# Altium footprint library alientek_sch_lib.PcbLib: 370 footprints (part 1 of 24)
Each footprint in its own frame and in the unit in brackets; x right, y up, seen from the top. Pads: shape width x height; smd on the part's side, far side on the other; paste and mask are expansions set on the pad; w line width, h text height; cw(c..) or ccw(c..) is an arc to the next point about the centre after c.
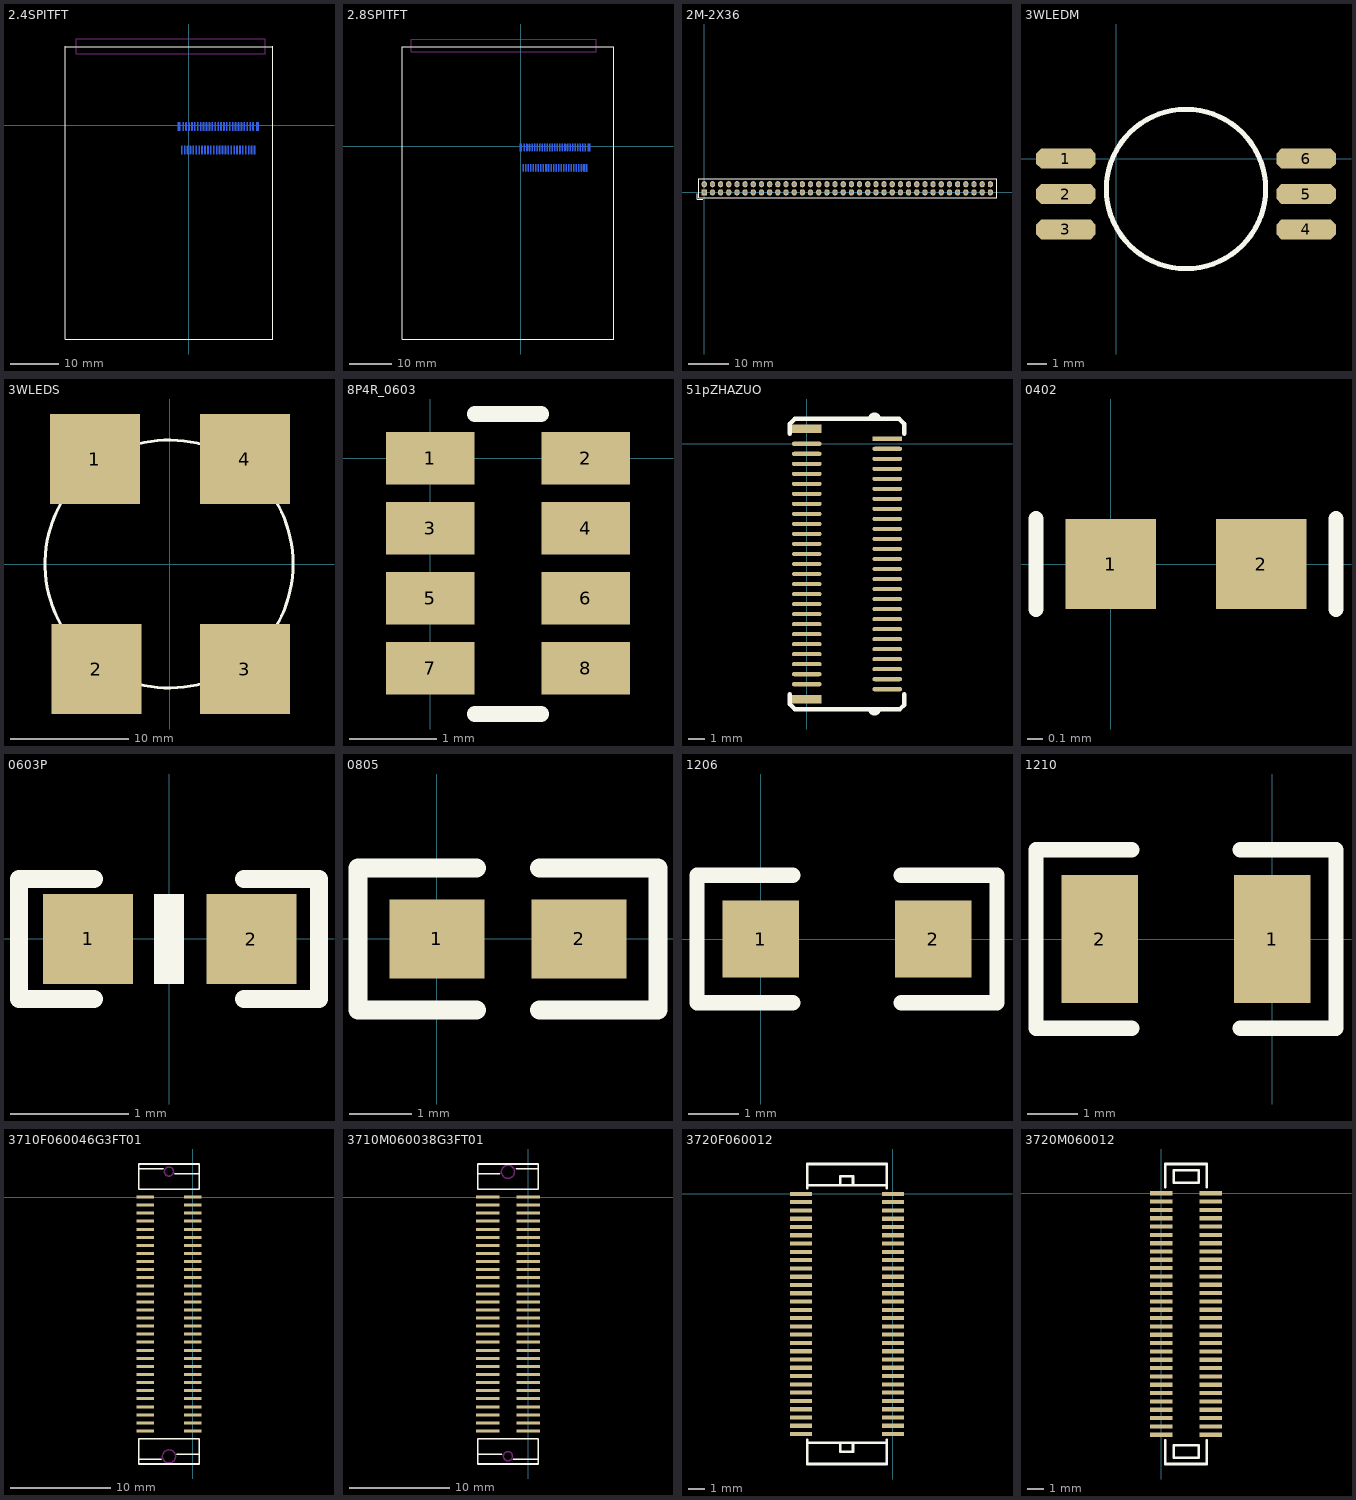
[diagram p0: the footprints below, top view; thin cyan lines are the x and y axes]

## 2.4SPITFT [mil] "2.4_TFT"
height 78.74
pads (53):
  rect 10x70 smd far side: 1(534.17,-200)
  oval 10x70 smd far side: 2(522.36,-10) 3(510.55,-200) 4(498.74,-10) 5(486.93,-200) 6(475.12,-10) 7(463.31,-200) 8(451.5,-10) 9(439.68,-200) 10(427.87,-10) 11(416.06,-200) 12(404.25,-10) 13(392.44,-200) 14(380.63,-10) 15(368.82,-200) 16(357.01,-10) 17(345.2,-200) 18(333.38,-10) 19(321.57,-200) 20(309.76,-10) 21(297.95,-200) 22(286.14,-10) 23(274.33,-200) 24(262.52,-10) 25(250.71,-200) 26(238.9,-10) 27(227.09,-200) 28(215.28,-10) 29(203.46,-200) 30(191.65,-10) 31(179.84,-200) 32(168.03,-10) 33(156.22,-200) 34(144.41,-10) 35(132.6,-200) 36(120.79,-10) 37(108.98,-200) 38(97.17,-10) 39(85.35,-200) 40(73.54,-10) 41(61.73,-200) 42(49.92,-10) 43(38.11,-200) 44(26.3,-10) 45(14.49,-200) 46(2.68,-10) 47(-9.13,-200) 48(-20.95,-10) 49(-32.76,-200) 50(-44.57,-10) 51(-56.38,-200)
  rect 20x70 smd far side: ""(-80,-10) ""(557.79,-10)
Top Overlay:
  lines w5: -1000.94,640 -1000.94,-1733.23 680.94,-1733.23 680.94,640 ; -1000,639 681.89,639
Bottom Overlay:
  lines w5: -61.57,-174.88 552.6,-174.88 552.6,637.4
  lines w10: -103.62,-180 cw(c-103.62,-170) -103.62,-160 ; -68.19,-240 -93.62,-240 -103.62,-230 -103.62,18.19 -91.81,30 -68.19,30 ; 545.98,-240 569.61,-240 581.42,-228.19 581.42,18.19 569.61,30 545.98,30 ; 581.42,-180 ccw(c581.42,-170) 581.42,-160
Keep-Out Layer:
  lines w5: -910,580 620,580 620,700 -910,700 -910,580

## 2.8SPITFT [mil] "2.8_TFT"
height 78.74
pads (53):
  rect 10x70 smd far side: 1(615,-200)
  oval 10x70 smd far side: 2(603.19,-10) 3(591.38,-200) 4(579.57,-10) 5(567.76,-200) 6(555.95,-10) 7(544.13,-200) 8(532.32,-10) 9(520.51,-200) 10(508.7,-10) 11(496.89,-200) 12(485.08,-10) 13(473.27,-200) 14(461.46,-10) 15(449.65,-200) 16(437.83,-10) 17(426.02,-200) 18(414.21,-10) 19(402.4,-200) 20(390.59,-10) 21(378.78,-200) 22(366.97,-10) 23(355.16,-200) 24(343.35,-10) 25(331.54,-200) 26(319.73,-10) 27(307.91,-200) 28(296.1,-10) 29(284.29,-200) 30(272.48,-10) 31(260.67,-200) 32(248.86,-10) 33(237.05,-200) 34(225.24,-10) 35(213.43,-200) 36(201.62,-10) 37(189.8,-200) 38(177.99,-10) 39(166.18,-200) 40(154.37,-10) 41(142.56,-200) 42(130.75,-10) 43(118.94,-200) 44(107.13,-10) 45(95.32,-200) 46(83.5,-10) 47(71.69,-200) 48(59.88,-10) 49(48.07,-200) 50(36.26,-10) 51(24.45,-200)
  rect 20x70 smd far side: ""(0.83,-10) ""(638.62,-10)
Top Overlay:
  lines w5: 626.81,928.66 867.36,928.66 ; 867.36,928.66 867.36,-1795.75 -1101.14,-1795.75 -1101.14,928.66 867.36,928.66
Bottom Overlay:
  lines w5: -984.21,930 -984.21,-170 626.81,-170 ; 626.81,-32.2 12.64,-32.2 ; 626.81,930 626.81,-170 ; 12.64,-170 626.81,-170 ; 12.64,-170 12.64,-32.2 ; 12.64,-170 12.64,-32.2
  lines w10: -22.79,-180 cw(c-22.79,-170) -22.79,-160 ; 12.64,-240 -12.79,-240 -22.79,-230 -22.79,18.19 -10.98,30 12.64,30 ; 626.81,-240 650.43,-240 662.24,-228.19 662.24,18.19 650.43,30 626.81,30 ; 662.24,-180 ccw(c662.24,-170) 662.24,-160
Keep-Out Layer:
  lines w5: -1018.54,880 707.68,880 707.68,1000 -1018.54,1000 -1018.54,880

## 2M-2X36 [mil]
pads (72):
  rect 50x60 hole 33.46: 1(0,0)
  oval 50x60 hole 33.46: 2(0,78.74)
  oval 50x60 hole 35: 3(78.74,0) 4(78.74,78.74) 5(157.48,0) 6(157.48,78.74) 7(236.22,0) 8(236.22,78.74) 9(314.96,0) 10(314.96,78.74) 11(393.7,0) 12(393.7,78.74) 13(472.44,0) 14(472.44,78.74) 15(551.18,0) 16(551.18,78.74) 17(629.92,0) 18(629.92,78.74) 19(708.66,0) 20(708.66,78.74) 21(787.4,0) 22(787.4,78.74) 23(866.14,0) 24(866.14,78.74) 25(944.88,0) 26(944.88,78.74) 27(1023.62,0) 28(1023.62,78.74) 29(1102.36,0) 30(1102.36,78.74) 31(1181.1,0) 32(1181.1,78.74) 33(1259.84,0) 34(1259.84,78.74) 35(1338.58,0) 36(1338.58,78.74) 37(1417.32,0) 38(1417.32,78.74) 39(1496.06,0) 40(1496.06,78.74) 41(1574.8,0) 42(1574.8,78.74) 43(1653.54,0) 44(1653.54,78.74) 45(1732.28,0) 46(1732.28,78.74) 47(1811.02,0) 48(1811.02,78.74) 49(1889.76,0) 50(1889.76,78.74) 51(1968.5,0) 52(1968.5,78.74) 53(2047.24,0) 54(2047.24,78.74) 55(2125.98,0) 56(2125.98,78.74) 57(2204.72,0) 58(2204.72,78.74) 59(2283.46,0) 60(2283.46,78.74) 61(2362.2,0) 62(2362.2,78.74) 63(2440.94,0) 64(2440.94,78.74) 65(2519.68,0) 66(2519.68,78.74) 67(2598.43,0) 68(2598.43,78.74) 69(2677.17,0) 70(2677.17,78.74) 71(2755.91,0) 72(2755.91,78.74)
Top Overlay:
  lines w10: -70,-15 -70,-65 -15,-65 ; 1365,-50 2820,-50 2820,-40 2820,130 1365,130 ; 1400,-50 -55,-50 -55,130 1400,130

## 3WLEDM [mm] "RGBLED"
pads (6):
  oct 3x1 smd: 1(-2.54,0) 2(-2.54,-1.778) 3(-2.54,-3.556) 4(9.525,-3.556) 5(9.525,-1.778) 6(9.525,0)
Top Overlay:
  circle w0.254: c3.493,-1.524 r4

## 3WLEDS [mil] "3WLED-21"
height 196.85
pads (4):
  rect 300x300 smd: 1(-250,350) 2(-245,-350) 3(250,-350) 4(250,350)
Top Overlay:
  circle w10: c-2.63,0 r413.39

## 8P4R_0603 [mm]
pads (8):
  rect 1.016x0.6 smd: 1(0,0) 2(1.778,0) 3(0,-0.8) 4(1.778,-0.8) 5(0,-1.6) 6(1.778,-1.6) 7(0,-2.4) 8(1.778,-2.4)
Top Overlay:
  lines w0.178: 0.508,-2.921 1.27,-2.921 ; 0.508,0.508 1.27,0.508

## 51pZHAZUO [mil]
pads (53):
  rect 70x10 smd: 1(190,11.81)
  oval 70x10 smd: 2(0,0) 3(190,-11.81) 4(0,-23.62) 5(190,-35.43) 6(0,-47.24) 7(190,-59.05) 8(0,-70.87) 9(190,-82.68) 10(0,-94.49) 11(190,-106.3) 12(0,-118.11) 13(190,-129.92) 14(0,-141.73) 15(190,-153.54) 16(0,-165.35) 17(190,-177.16) 18(0,-188.98) 19(190,-200.79) 20(0,-212.6) 21(190,-224.41) 22(0,-236.22) 23(190,-248.03) 24(0,-259.84) 25(190,-271.65) 26(0,-283.46) 27(190,-295.27) 28(0,-307.09) 29(190,-318.9) 30(0,-330.71) 31(190,-342.52) 32(0,-354.33) 33(190,-366.14) 34(0,-377.95) 35(190,-389.76) 36(0,-401.57) 37(190,-413.38) 38(0,-425.2) 39(190,-437.01) 40(0,-448.82) 41(190,-460.63) 42(0,-472.44) 43(190,-484.25) 44(0,-496.06) 45(190,-507.87) 46(0,-519.68) 47(190,-531.5) 48(0,-543.31) 49(190,-555.12) 50(0,-566.93) 51(190,-578.74)
  rect 70x20 smd: ""(0,-602.36) ""(0,35.43)
Top Overlay:
  lines w10: -40,-590.55 -40,-614.17 -28.19,-625.98 220,-625.98 230,-615.98 230,-590.55 ; -40,23.62 -40,47.24 -28.19,59.05 218.19,59.05 230,47.24 230,23.62 ; 150,-625.98 ccw(c160,-625.98) 170,-625.98 ; 150,59.05 cw(c160,59.05) 170,59.05

## 0402 [mm]
height 0.5
pads (2):
  rect 0.6x0.6 smd: 1(0,0) 2(1,0)
Top Overlay:
  lines w0.1: -0.495,-0.3 -0.495,0 -0.495,0.3 ; 1.495,-0.3 1.495,0 1.495,0.3

## 0603P [mil]
pads (2):
  rect 30x30 smd: 1(-27,0) 2(27.5,-0.06)
Top Overlay:
  region: 5,-15.06 5,14.94 -5,14.94 -5,-15.06
  lines w6: -25,-20.06 -50,-20.06 -50,19.94 -25,19.94 ; 25,-20.06 50,-20.06 50,19.94 25,19.94

## 0805 [mil]
pads (2):
  rect 60x50 smd: 1(0,-0.06) 2(90,-0.06)
Top Overlay:
  lines w12: 25,-45.06 -50,-45.06 -50,44.94 25,44.94 ; 65,-45.06 140,-45.06 140,44.94 65,44.94

## 1206 [mil]
pads (2):
  rect 60x60 smd: 1(0,0) 2(135,0)
Top Overlay:
  lines w12: 25,-50 -50,-50 -50,50 25,50 ; 110,-50 185,-50 185,50 110,50

## 1210 [mil]
pads (2):
  rect 60x100 smd: 1(0,0) 2(-135,0)
Top Overlay:
  lines w12: -110,-70 -185,-70 -185,70 -110,70 ; -25,-70 50,-70 50,70 -25,70

## 3710F060046G3FT01 [mm] "PIN:0.8mm;SOP;FEMALE"
height 4.6
pads (60):
  rect 1.7x0.3 smd: 1(-4.7,0) 2(-4.7,-0.8) 3(-4.7,-1.6) 4(-4.7,-2.4) 5(-4.7,-3.2) 6(-4.7,-4) 7(-4.7,-4.8) 8(-4.7,-5.6) 9(-4.7,-6.4) 10(-4.7,-7.2) 11(-4.7,-8) 12(-4.7,-8.8) 13(-4.7,-9.6) 14(-4.7,-10.4) 15(-4.7,-11.2) 16(-4.7,-12) 17(-4.7,-12.8) 18(-4.7,-13.6) 19(-4.7,-14.4) 20(-4.7,-15.2) 21(-4.7,-16) 22(-4.7,-16.8) 23(-4.7,-17.6) 24(-4.7,-18.4) 25(-4.7,-19.2) 26(-4.7,-20) 27(-4.7,-20.8) 28(-4.7,-21.6) 29(-4.7,-22.4) 30(-4.7,-23.2) 31(0,-23.2) 32(0,-22.4) 33(0,-21.6) 34(0,-20.8) 35(0,-20) 36(0,-19.2) 37(0,-18.4) 38(0,-17.6) 39(0,-16.8) 40(0,-16) 41(0,-15.2) 42(0,-14.4) 43(0,-13.6) 44(0,-12.8) 45(0,-12) 46(0,-11.2) 47(0,-10.4) 48(0,-9.6) 49(0,-8.8) 50(0,-8) 51(0,-7.2) 52(0,-6.4) 53(0,-5.6) 54(0,-4.8) 55(0,-4) 56(0,-3.2) 57(0,-2.4) 58(0,-1.6) 59(0,-0.8) 60(0,0)
Top Overlay:
  lines w0.152: -5.35,-26 -3.1,-26 ; -5.35,2.8 -2.9,2.8 ; -1.8,2.3 0.65,2.3 ; -1.6,-25.5 0.65,-25.5 ; 0.625,0.775 -5.35,0.775 -5.35,3.275 0.65,3.275 0.65,0.775 ; -5.35,-26.475 0.65,-26.475 0.65,-23.975 -5.35,-23.975 -5.35,-26.475
Keep-Out Layer:
  circle w0.152: c-2.35,2.525 r0.45
  circle w0.152: c-2.35,-25.725 r0.65

## 3710M060038G3FT01 [mm] "PIN:0.8mm;SOP;MALE"
height 3.8
pads (60):
  rect 2.3x0.3 smd: 1(0,0) 2(0,-0.8) 3(0,-1.6) 4(0,-2.4) 5(0,-3.2) 6(0,-4) 7(0,-4.8) 8(0,-5.6) 9(0,-6.4) 10(0,-7.2) 11(0,-8) 12(0,-8.8) 13(0,-9.6) 14(0,-10.4) 15(0,-11.2) 16(0,-12) 17(0,-12.8) 18(0,-13.6) 19(0,-14.4) 20(0,-15.2) 21(0,-16) 22(0,-16.8) 23(0,-17.6) 24(0,-18.4) 25(0,-19.2) 26(0,-20) 27(0,-20.8) 28(0,-21.6) 29(0,-22.4) 30(0,-23.2) 31(-4,-23.2) 32(-4,-22.4) 33(-4,-21.6) 34(-4,-20.8) 35(-4,-20) 36(-4,-19.2) 37(-4,-18.4) 38(-4,-17.6) 39(-4,-16.8) 40(-4,-16) 41(-4,-15.2) 42(-4,-14.4) 43(-4,-13.6) 44(-4,-12.8) 45(-4,-12) 46(-4,-11.2) 47(-4,-10.4) 48(-4,-9.6) 49(-4,-8.8) 50(-4,-8) 51(-4,-7.2) 52(-4,-6.4) 53(-4,-5.6) 54(-4,-4.8) 55(-4,-4) 56(-4,-3.2) 57(-4,-2.4) 58(-4,-1.6) 59(-4,-0.8) 60(-4,0)
Top Overlay:
  lines w0.152: -5,-25.5 -2.6,-25.5 ; -5,2.3 -2.8,2.3 ; -1.5,-26 1,-26 ; -1.2,2.8 1,2.8 ; 0.975,0.775 -5,0.775 -5,3.275 1,3.275 1,0.775 ; -5,-26.475 1,-26.475 1,-23.975 -5,-23.975 -5,-26.475
Keep-Out Layer:
  circle w0.152: c-2,-25.7 r0.45
  circle w0.152: c-2,2.5 r0.65

## 3720F060012 [mm] "PIN:0.5mm;SOP;"
height 1.25
pads (60):
  rect 1.35x0.25 smd: 1(0,0) 2(0,-0.5) 3(0,-1) 4(0,-1.5) 5(0,-2) 6(0,-2.5) 7(0,-3) 8(0,-3.5) 9(0,-4) 10(0,-4.5) 11(0,-5) 12(0,-5.5) 13(0,-6) 14(0,-6.5) 15(0,-7) 16(0,-7.5) 17(0,-8) 18(0,-8.5) 19(0,-9) 20(0,-9.5) 21(0,-10) 22(0,-10.5) 23(0,-11) 24(0,-11.5) 25(0,-12) 26(0,-12.5) 27(0,-13) 28(0,-13.5) 29(0,-14) 30(0,-14.5) 31(-5.55,-14.5) 32(-5.55,-14) 33(-5.55,-13.5) 34(-5.55,-13) 35(-5.55,-12.5) 36(-5.55,-12) 37(-5.55,-11.5) 38(-5.55,-11) 39(-5.55,-10.5) 40(-5.55,-10) 41(-5.55,-9.5) 42(-5.55,-9) 43(-5.55,-8.5) 44(-5.55,-8) 45(-5.55,-7.5) 46(-5.55,-7) 47(-5.55,-6.5) 48(-5.55,-6) 49(-5.55,-5.5) 50(-5.55,-5) 51(-5.55,-4.5) 52(-5.55,-4) 53(-5.55,-3.5) 54(-5.55,-3) 55(-5.55,-2.5) 56(-5.55,-2) 57(-5.55,-1.5) 58(-5.55,-1) 59(-5.55,-0.5) 60(-5.55,0)
Top Overlay:
  lines w0.152: -5.182,-15.011 -0.382,-15.011 ; -5.182,-14.834 -5.182,-16.307 -0.382,-16.307 -0.382,-14.834 ; -5.182,0.33 -5.182,1.803 -0.382,1.803 -0.382,0.33 ; -5.182,0.508 -3.532,0.508 -2.032,0.508 -0.407,0.508 ; -3.556,-15.011 -2.056,-15.011 ; -3.175,-15.011 -3.175,-15.57 -2.413,-15.57 -2.413,-15.011 ; -3.175,0.508 -3.175,1.067 -2.413,1.067 -2.413,0.508

## 3720M060012 [mm] "PIN:0.5mm;SOP;"
height 1.25
pads (60):
  rect 1.35x0.25 smd: 1(0,0) 2(0,-0.5) 3(0,-1) 4(0,-1.5) 5(0,-2) 6(0,-2.5) 7(0,-3) 8(0,-3.5) 9(0,-4) 10(0,-4.5) 11(0,-5) 12(0,-5.5) 13(0,-6) 14(0,-6.5) 15(0,-7) 16(0,-7.5) 17(0,-8) 18(0,-8.5) 19(0,-9) 20(0,-9.5) 21(0,-10) 22(0,-10.5) 23(0,-11) 24(0,-11.5) 25(0,-12) 26(0,-12.5) 27(0,-13) 28(0,-13.5) 29(0,-14) 30(0,-14.5) 31(2.95,-14.5) 32(2.95,-14) 33(2.95,-13.5) 34(2.95,-13) 35(2.95,-12.5) 36(2.95,-12) 37(2.95,-11.5) 38(2.95,-11) 39(2.95,-10.5) 40(2.95,-10) 41(2.95,-9.5) 42(2.95,-9) 43(2.95,-8.5) 44(2.95,-8) 45(2.95,-7.5) 46(2.95,-7) 47(2.95,-6.5) 48(2.95,-6) 49(2.95,-5.5) 50(2.95,-5) 51(2.95,-4.5) 52(2.95,-4) 53(2.95,-3.5) 54(2.95,-3) 55(2.95,-2.5) 56(2.95,-2) 57(2.95,-1.5) 58(2.95,-1) 59(2.95,-0.5) 60(2.95,0)
Top Overlay:
  lines w0.152: 0.218,0.356 0.218,1.753 2.718,1.753 2.718,0.356 ; 0.229,-14.834 0.229,-16.256 2.729,-16.256 2.729,-14.834 ; 0.735,-15.875 0.735,-15.138 2.235,-15.138 2.235,-15.875 0.735,-15.875 ; 0.735,0.635 2.235,0.635 2.235,1.372 0.735,1.372 0.735,0.635